# EAGLE library part USB3318 (library smsc)
Hi-Speed USB Transceiver 1.8V-3.3V ULPI Interface - 13MHz Reference Clock
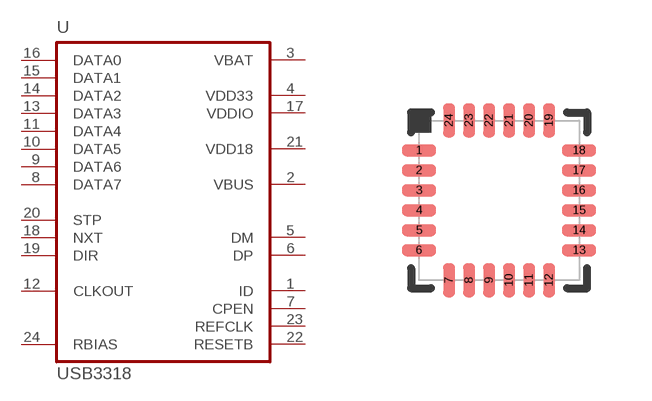
[diagram p1: symbol with the pads of QFN24; footprint QFN24]

Designator prefix U

## USB3318  [QFN24]
1  ID
2  VBUS  pas
3  VBAT  pas
4  VDD33  pas
5  DM
6  DP
7  CPEN
8  DATA7
9  DATA6
10  DATA5
11  DATA4
12  CLKOUT  out
13  DATA3
14  DATA2
15  DATA1
16  DATA0
17  VDDIO  pas
18  NXT
19  DIR
20  STP
21  VDD18  pas
22  RESETB
23  REFCLK
24  RBIAS  pas

## Footprint QFN24 (pad centres in mm)
QFN-24 body 4x4mm, pitch 0.5mm
smd 0.85 x 0.3: 1 -2,1.25; 2 -2,0.75; 3 -2,0.25; 4 -2,-0.25; 5 -2,-0.75; 6 -2,-1.25; 13 2,-1.25; 14 2,-0.75; 15 2,-0.25; 16 2,0.25; 17 2,0.75; 18 2,1.25
smd 0.3 x 0.85: 7 -1.25,-2; 8 -0.75,-2; 9 -0.25,-2; 10 0.25,-2; 11 0.75,-2; 12 1.25,-2; 19 1.25,2; 20 0.75,2; 21 0.25,2; 22 -0.25,2; 23 -0.75,2; 24 -1.25,2